# EAGLE library part TPA731 (library EE445L)
TPA731D The TPA731 is a bridge-tied load (BTL) audio power amplifier developed especially for low-voltage applications where internal speakers are required. Operating with a 3.3-V supply, the TPA731 can deliver 250-mW of continuous power into a BTL 8-Ω load at less than 0.6% THD+N throughout voice band frequencies. Although this device is characterized out to 20 kHz, its operation is optimized for narrower band applications such as wireless communications. The BTL configuration eliminates the need for external coupling capacitors on the output in most applications, which is particularly important for small battery-powered equipment. This device features a shutdown mode for power-sensitive applications with a supply current of 1.5 nA during shutdown. The TPA731 is available in an 8-pin SOIC surface-mount package and the surface-mount PowerPAD MSOP, which reduces board space by 50% and height by 40%. This part could be used for other mono channel headphone amps like the TPA321 or TPA731.
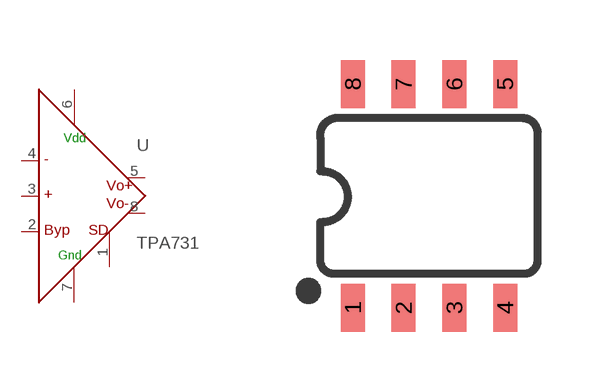
[diagram p36: symbol with the pads of SO08; footprint SO08]

Designator prefix U

## TPA731  [SO08]
1  SHUTDOWN  pas
2  BYPASS  in
3  IN+  pas
4  IN-  pas
5  VO+  out
6  VDD  pwr
7  GND  pwr
8  VO-  out

## Footprint SO08 (pad centres in mm)
SOIC, 0.15 inch width
smd 0.6 x 1.2: 1 -1.905,-2.8; 2 -0.635,-2.8; 3 0.635,-2.8; 4 1.905,-2.8; 5 1.905,2.8; 6 0.635,2.8; 7 -0.635,2.8; 8 -1.905,2.8